# Altium integrated library BC846.IntLib: 1 symbol
Pins are listed as number, name and electrical type; pins without a type are passive.

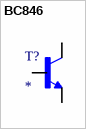
[diagram p0: symbol BC846]

## BC846
designator T?
TRANSISTOR, NPN, 0.1A, 65V, SOT23; Transistor Polarity:NPN; Collector Emitter Voltage V(br)ceo:65V; Transition Frequency Typ ft:100MHz; Power Dissipation Pd:250mW; DC Collector Current:100mA; DC Current Gain hFE:110; Operating Temperature Min:-55Â°C; Operating Temperature Max:150Â°C; Transistor Case Style:SOT-23; No. of Pins:3; DC Current Gain Hfe Max:450; Operating Temperature Range:-55Â°C to +150Â°C; MF: ON Semiconductor; MP: BC846; SnapEDA_Link: https://www.snapeda.com/parts/BC846/Onsemi/view-part/?ref=snap; Package: SOT-23-3 Panasonic Electronic; Value: *; Check_prices: https://www.snapeda.com/parts/BC846/Onsemi/view-part/?ref=eda
footprint SOT23
pins: 1 B, 2 E, 3 C